# Altium footprint library WiFiMod.PcbLib: 4 footprints
Each footprint in its own frame and in the unit in brackets; x right, y up, seen from the top. Pads: shape width x height; smd on the part's side, far side on the other; paste and mask are expansions set on the pad; w line width, h text height; cw(c..) or ccw(c..) is an arc to the next point about the centre after c.
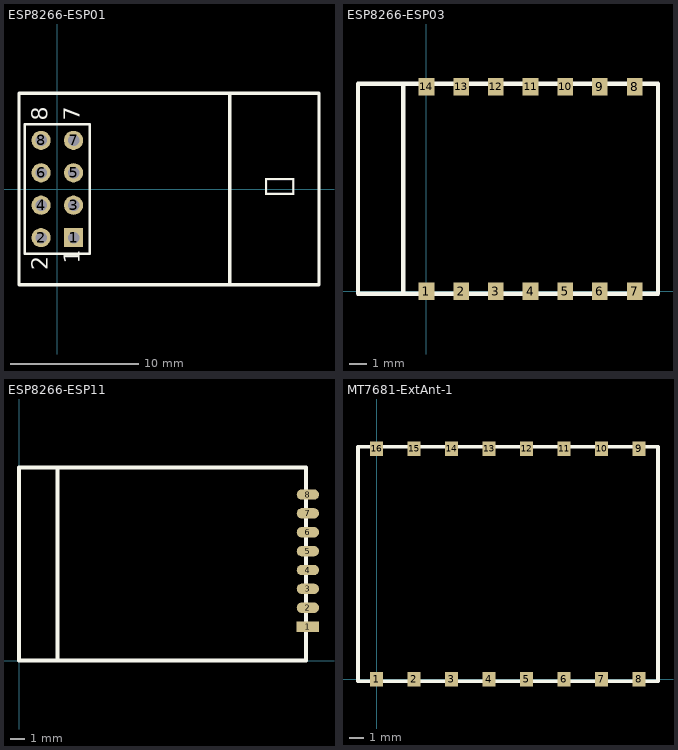
[diagram p0: the footprints below, top view; thin cyan lines are the x and y axes]

## ESP8266-ESP01 [mm]
pads (8):
  rect 1.5x1.5 hole 0.9: 1(1.27,-3.81)
  round 1.5 hole 0.9: 2(-1.27,-3.81) 3(1.27,-1.27) 4(-1.27,-1.27) 5(1.27,1.27) 6(-1.27,1.27) 7(1.27,3.81) 8(-1.27,3.81)
Top Overlay:
  lines w0.2: -2.54,-5.08 -2.54,5.08 2.54,5.08 2.54,-5.08 -2.54,-5.08
  lines w0.254: 0,7.5 -3,7.5 ; 13.5,-7.5 13.5,7.5 ; -3,7.5 -3,0 -3,-7.5 0,-7.5 12.5,-7.5 20.5,-7.5 20.5,7.5 -3,7.5
  text "" at 15.5,1.8 h4
  text "2" at -0.762,-6.35 h1.27
  text "1" at 1.778,-5.842 h1.27
  text "7" at 1.778,5.334 h1.27
  text "8" at -0.762,5.334 h1.27

## ESP8266-ESP03 [mm]
pads (14):
  rect 0.9x1 smd: 1(0,0) 2(2,0) 3(4,0) 4(6,0) 5(8,0) 6(10,0) 7(12,0) 8(12,11.811) 9(10,11.811) 10(8,11.811) 11(6,11.811) 12(4,11.811) 13(2,11.811) 14(0,11.811)
Top Overlay:
  lines w0.254: -3.95,11.973 -3.95,-0.127 -1.35,-0.127 ; -3.915,11.973 -1.35,11.973 ; -1.35,-0.127 -1.35,11.973 ; -1.35,-0.127 13.35,-0.127 13.35,11.973 -1.35,11.973

## ESP8266-ESP11 [mm]
pads (8):
  rect 1.5x0.7 smd: 1(19.431,2.286)
  oval 1.5x0.7 smd: 2(19.431,3.556) 3(19.431,4.826) 4(19.431,6.096) 5(19.431,7.366) 6(19.431,8.636) 7(19.431,9.906) 8(19.431,11.176)
Top Overlay:
  lines w0.254: 2.587,0 -0.013,0 -0.013,13 2.587,13 ; 2.587,0 19.3,0 19.3,13 2.587,13 ; 2.587,0 2.587,13

## MT7681-ExtAnt-1 [mm]
pads (16):
  rect 0.9x1 smd: 1(0,0) 2(2.54,0) 3(5.08,0) 4(7.62,0) 5(10.16,0) 6(12.7,0) 7(15.24,0) 8(17.78,0) 9(17.78,15.621) 10(15.24,15.621) 11(12.7,15.621) 12(10.16,15.621) 13(7.62,15.621) 14(5.08,15.621) 15(2.54,15.621) 16(0,15.621)
Top Overlay:
  lines w0.254: -1.26,-0.127 19.06,-0.127 19.06,15.748 -1.26,15.748 -1.26,-0.127